# Altium schematic symbol library 93C46BT_I_OT.SchLib: 2 symbols
Pins are listed as number, name and electrical type; pins without a type are passive.

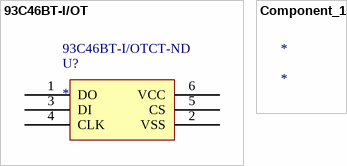
[diagram p0: symbols 93C46BT-I/OT to Component_1]

## 93C46BT-I/OT
designator U?  Supplier Part Number 1: 93C46BT-I/OTCT-ND
EEPROM 64x16; Manufacturer: Microchip Technology; Manufacturer Part Number: 93C46BT-I/OT; Access Time: 250ns; Supply Voltage: 5V; Density: 1Kb; Max Supply Voltage: 5.5V; Min Supply Voltage: 4.5V; Frequency: 2MHz; Nominal Supply Current: 2mA; Interface: Serial; Number of Words: 64; Supplier 1: Digikey; Stock 1: 2857; Pricing 1: 1=0.26, 100=0.2457 (USD); Mount: Surface Mount; Case/Package: SOT-23; Number of Pins: 6; Contact Plating: Tin; Min Operating Temperature: -40°C; Max Operating Temperature: 85°C; Package Quantity: 3000; Packaging: Tape and Reel; Memory Type: EEPROM; Memory Size: 1Kb; Max Frequency: 2MHz; Length: 3.1mm; Height: 1.3mm; Width: 1.8mm; Radiation Hardening: No; Lead Free: Lead Free; ComponentLink1URL: https://datasheet.ciiva.com/16622/jp550232-16622265.pdf; ComponentLink1Description: https://datasheet.ciiva.com/16622/jp550232-16622265.pdf; ComponentLink2URL: https://datasheet.ciiva.com/26942/getdatasheetpartid-784586-26942172.pdf; ComponentLink2Description: https://datasheet.ciiva.com/26942/getdatasheetpartid-784586-26942172.pdf
footprint SOT95P270X145-6N (SOT23, 6-Leads, Body 2.90x2.70mm, Pitch 0.95mm, IPC Medium Density)
pins: 1 DO, 2 VSS, 3 DI, 4 CLK, 5 CS, 6 VCC

## Component_1
designator *